# EAGLE library part MAX3032EEUE+ (library TImingBoardPartLibrary)
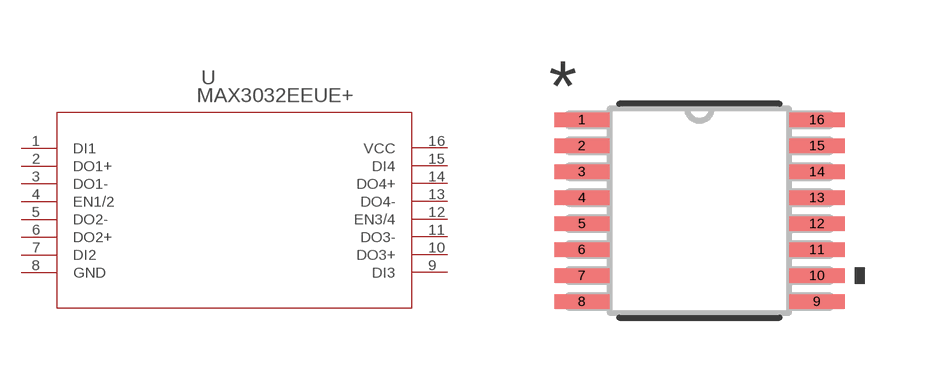
[diagram p3: symbol with the pads of MAX3032EEUE+; footprint MAX3032EEUE+]

Designator prefix -

## MAX3032EEUE+ (LCSC: C143402)  [MAX3032EEUE+]
1  DI1  pas
2  DO1+  pas
3  DO1-  pas
4  EN1/2  pas
5  DO2-  pas
6  DO2+  pas
7  DI2  pas
8  GND  pwr
9  DI3  pas
10  DO3+  pas
11  DO3-  pas
12  EN3/4  pas
13  DO4-  pas
14  DO4+  pas
15  DI4  pas
16  VCC  pwr

## Footprint MAX3032EEUE+ (pad centres in mm)
smd 1.384 x 0.356: 1 -2.94,2.275; 2 -2.94,1.625; 3 -2.94,0.975; 4 -2.94,0.325; 5 -2.94,-0.325; 6 -2.94,-0.975; 7 -2.94,-1.625; 8 -2.94,-2.275; 9 2.94,-2.275; 10 2.94,-1.625; 11 2.94,-0.975; 12 2.94,-0.325; 13 2.94,0.325; 14 2.94,0.975; 15 2.94,1.625; 16 2.94,2.275